# Altium schematic symbol library spotmini_SCHLIB.SchLib: 11 symbols
Pins are listed as number, name and electrical type; pins without a type are passive.

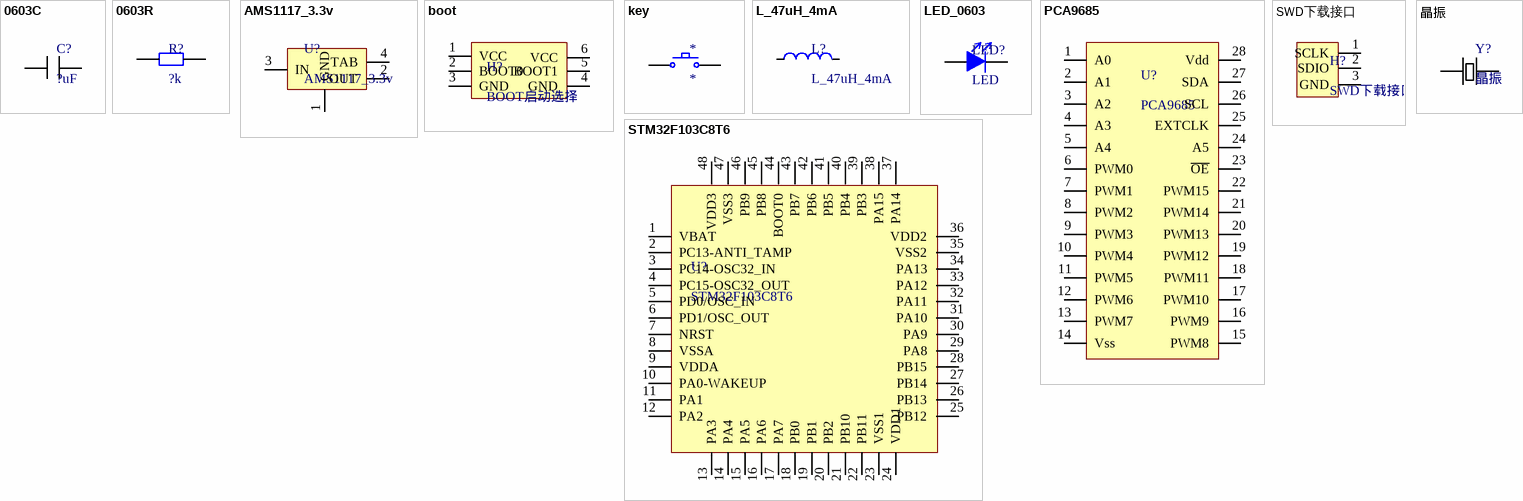
[diagram p0: symbols 0603C to 晶振]

## 0603C
designator C?, comment ?uF
footprint 0603C (无极性电容)
pins: 1, 2

## 0603R
designator R?, comment ?k
footprint 0603R
pins: 1, 2

## AMS1117_3.3v
designator U?
footprint AMS1117-3.3v (SOT-223 6.4x7x1.6mm(长宽高))
pins: 1 GND, 2 OUT, 3 IN, 4 TAB

## boot
designator H?, comment BOOT启动选择
footprint Header3x2 (间距2.54mm)
pins: 1 VCC, 2 BOOT0, 3 GND, 4 GND, 5 BOOT1, 6 VCC

## key
designator *
footprint Key (3*6*4.3 Plastic head,260G, 0.25mm,SMD)
pins: 1, 2

## L_47uH_4mA
designator L?
footprint L0805
pins: 1, 2

## LED_0603
designator LED?, comment LED
footprint LED 0603R (红色LED灯)
pins: 1, 2

## PCA9685
designator U?
footprint PCA9685 (TSOP, 28-Leads, Body 9.70x4.40mm, Pitch 0.65mm, TSSOP封装)
pins: 1 A0, 2 A1, 3 A2, 4 A3, 5 A4, 6 PWM0, 7 PWM1, 8 PWM2, 9 PWM3, 10 PWM4, 11 PWM5, 12 PWM6, 13 PWM7, 14 Vss, 15 PWM8, 16 PWM9, 17 PWM10, 18 PWM11, 19 PWM12, 20 PWM13, 21 PWM14, 22 PWM15, 23 ~{OE}, 24 A5, 25 EXTCLK, 26 SCL, 27 SDA, 28 Vdd

## STM32F103C8T6
designator U?
footprint STM32F103C8T6 (48Pin)
pins: 1 VBAT, 2 PC13-ANTI_TAMP, 3 PC14-OSC32_IN, 4 PC15-OSC32_OUT, 5 PD0/OSC_IN, 6 PD1/OSC_OUT, 7 NRST, 8 VSSA, 9 VDDA, 10 PA0-WAKEUP, 11 PA1, 12 PA2, 13 PA3, 14 PA4, 15 PA5, 16 PA6, 17 PA7, 18 PB0, 19 PB1, 20 PB2, 21 PB10, 22 PB11, 23 VSS1, 24 VDD1, 25 PB12, 26 PB13, 27 PB14, 28 PB15, 29 PA8, 30 PA9, 31 PA10, 32 PA11, 33 PA12, 34 PA13, 35 VSS2, 36 VDD2, 37 PA14, 38 PA15, 39 PB3, 40 PB4, 41 PB5, 42 PB6, 43 PB7, 44 BOOT0, 45 PB8, 46 PB9, 47 VSS3, 48 VDD3

## SWD下载接口
designator H?
footprint Header1x3 (间距2.54mm)
pins: 1 SCLK, 2 SDIO, 3 GND

## 晶振
designator Y?
footprint 晶振_SMD_5032
pins: 1, 2